# Altium footprint library BGA-121.PcbLib: 1 footprints
Each footprint in its own frame and in the unit in brackets; x right, y up, seen from the top. Pads: shape width x height; smd on the part's side, far side on the other; paste and mask are expansions set on the pad; w line width, h text height; cw(c..) or ccw(c..) is an arc to the next point about the centre after c.
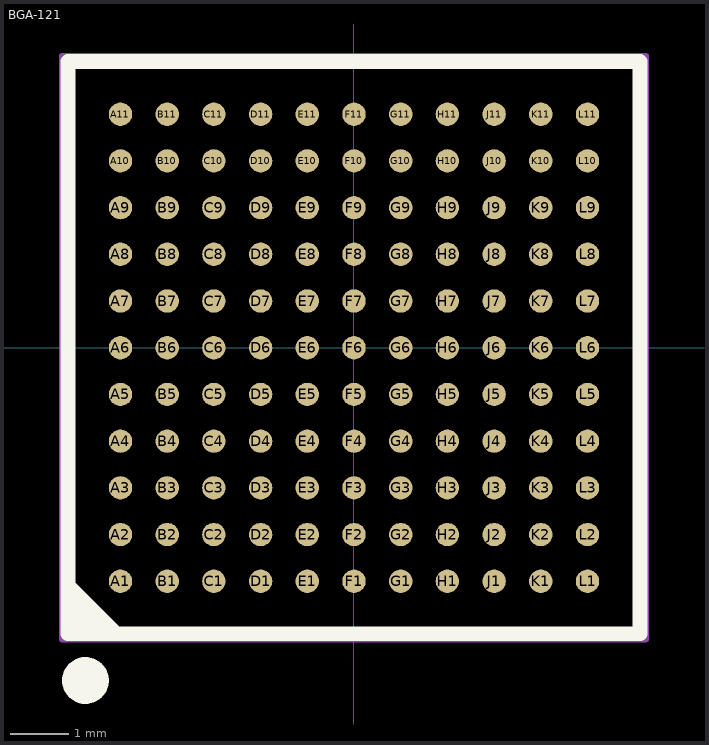
[diagram p0: the footprint, top view; thin cyan lines are the x and y axes]

## BGA-121 [mm]
pads (121):
  round 0.4 smd mask+0.051: A1(-4,-4) A2(-4,-3.2) A3(-4,-2.4) A4(-4,-1.6) A5(-4,-0.8) A6(-4,0) A7(-4,0.8) A8(-4,1.6) A9(-4,2.4) A10(-4,3.2) A11(-4,4) B1(-3.2,-4) B2(-3.2,-3.2) B3(-3.2,-2.4) B4(-3.2,-1.6) B5(-3.2,-0.8) B6(-3.2,0) B7(-3.2,0.8) B8(-3.2,1.6) B9(-3.2,2.4) B10(-3.2,3.2) B11(-3.2,4) C1(-2.4,-4) C2(-2.4,-3.2) C3(-2.4,-2.4) C4(-2.4,-1.6) C5(-2.4,-0.8) C6(-2.4,0) C7(-2.4,0.8) C8(-2.4,1.6) C9(-2.4,2.4) C10(-2.4,3.2) C11(-2.4,4) D1(-1.6,-4) D2(-1.6,-3.2) D3(-1.6,-2.4) D4(-1.6,-1.6) D5(-1.6,-0.8) D6(-1.6,0) D7(-1.6,0.8) D8(-1.6,1.6) D9(-1.6,2.4) D10(-1.6,3.2) D11(-1.6,4) E1(-0.8,-4) E2(-0.8,-3.2) E3(-0.8,-2.4) E4(-0.8,-1.6) E5(-0.8,-0.8) E6(-0.8,0) E7(-0.8,0.8) E8(-0.8,1.6) E9(-0.8,2.4) E10(-0.8,3.2) E11(-0.8,4) F1(0,-4) F2(0,-3.2) F3(0,-2.4) F4(0,-1.6) F5(0,-0.8) F6(0,0) F7(0,0.8) F8(0,1.6) F9(0,2.4) F10(0,3.2) F11(0,4) G1(0.8,-4) G2(0.8,-3.2) G3(0.8,-2.4) G4(0.8,-1.6) G5(0.8,-0.8) G6(0.8,0) G7(0.8,0.8) G8(0.8,1.6) G9(0.8,2.4) G10(0.8,3.2) G11(0.8,4) H1(1.6,-4) H2(1.6,-3.2) H3(1.6,-2.4) H4(1.6,-1.6) H5(1.6,-0.8) H6(1.6,0) H7(1.6,0.8) H8(1.6,1.6) H9(1.6,2.4) H10(1.6,3.2) H11(1.6,4) J1(2.4,-4) J2(2.4,-3.2) J3(2.4,-2.4) J4(2.4,-1.6) J5(2.4,-0.8) J6(2.4,0) J7(2.4,0.8) J8(2.4,1.6) J9(2.4,2.4) J10(2.4,3.2) J11(2.4,4) K1(3.2,-4) K2(3.2,-3.2) K3(3.2,-2.4) K4(3.2,-1.6) K5(3.2,-0.8) K6(3.2,0) K7(3.2,0.8) K8(3.2,1.6) K9(3.2,2.4) K10(3.2,3.2) K11(3.2,4) L1(4,-4) L2(4,-3.2) L3(4,-2.4) L4(4,-1.6) L5(4,-0.8) L6(4,0) L7(4,0.8) L8(4,1.6) L9(4,2.4) L10(4,3.2) L11(4,4)
Top Overlay:
  circle w0.4: c-4.6,-5.7 r0.2
  region: -4.868,-4.863 -3.937,-4.863 -4.863,-3.937 -4.868,-3.937
  lines w0.254: -4.9,-4.9 4.9,-4.9 4.9,4.9 -4.9,4.9 -4.9,-4.9
Mechanical 13:
  lines w0.1: -5,-5 -5,5 5,5 5,-5 -5,-5